# Altium integrated library LM61495QRPHRQ1.IntLib: 1 symbol
Pins are listed as number, name and electrical type; pins without a type are passive.

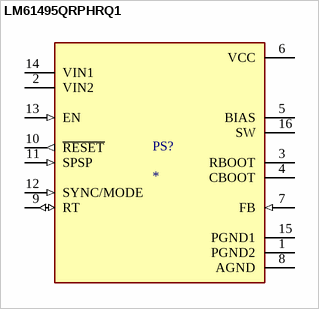
[diagram p0: symbol LM61495QRPHRQ1]

## LM61495QRPHRQ1
designator PS?
10-A automotive buck converter optimized for power density and low EMI; MF: Texas Instruments; MP: LM61495QRPHRQ1; SnapEDA_Link: https://www.snapeda.com/parts/LM61495QRPHRQ1/Texas+Instruments/view-part/?ref=snap; Package: PowerVFQFN-16 Texas Instruments; Value: *; Check_prices: https://www.snapeda.com/parts/LM61495QRPHRQ1/Texas+Instruments/view-part/?ref=eda
footprint CONV_LM61495QRPHRQ1
pins: 1 PGND2 (power), 2 VIN2 (power), 3 RBOOT, 4 CBOOT, 5 BIAS, 6 VCC (power), 7 FB (in), 8 AGND (power), 9 RT (io), 10 ~{RESET} (out), 11 SPSP (in), 12 SYNC/MODE (in), 13 EN (in), 14 VIN1 (power), 15 PGND1 (power), 16 SW